# Altium footprint library DO-213.PcbLib: 1 footprints
Each footprint in its own frame and in the unit in brackets; x right, y up, seen from the top. Pads: shape width x height; smd on the part's side, far side on the other; paste and mask are expansions set on the pad; w line width, h text height; cw(c..) or ccw(c..) is an arc to the next point about the centre after c.
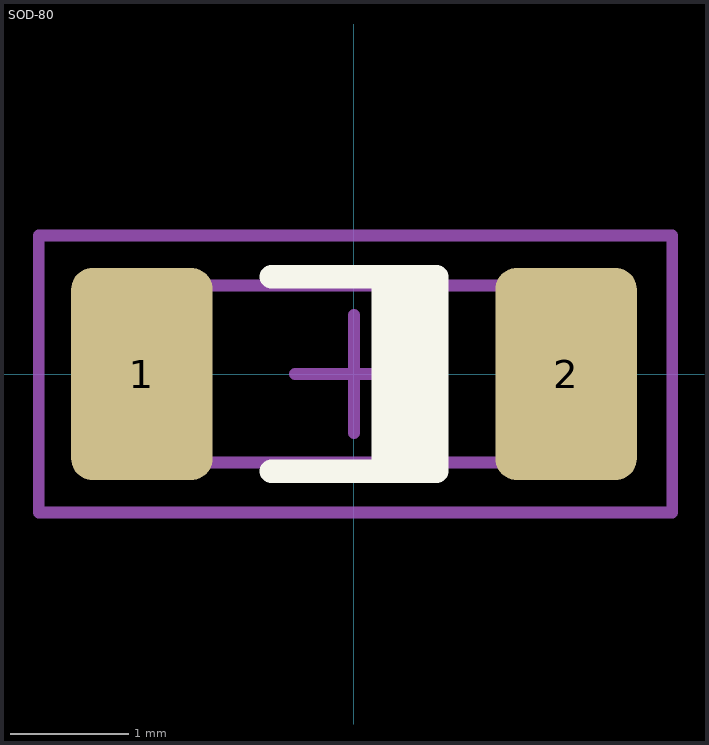
[diagram p0: the footprint, top view; thin cyan lines are the x and y axes]

## SOD-80 [mm] "MELF Diode, 2-Leads, Body 3.4x1.4mm, IPC Medium Density"
height 1.5
pads (2):
  rrect30% 1.2x1.8 smd: 1(-1.8,0) 2(1.8,0)
Top Overlay:
  rectangle: 0.15,-0.825 0.7,0.825
  lines w0.2: -0.7,-0.825 0.7,-0.825 0.7,0.825 -0.7,0.825
Mechanical 13:
  rectangle: 1.316,-0.75 1.8,0.75
  lines w0.1: -1.8,-0.75 -1.8,0.75 1.8,0.75 1.8,-0.75 -1.8,-0.75
Mechanical 15:
  lines w0.1: -0.5,0 0.5,0 ; 0,-0.5 0,0.5 ; -2.675,-1.175 -2.675,1.175 2.7,1.175 2.7,-1.175 -2.675,-1.175
3D body: height 1.5, standoff 0, extent -1.8,-0.75 1.8,0.75